# Altium footprint library CD214BFS2K.PcbLib: 1 footprints
Each footprint in its own frame and in the unit in brackets; x right, y up, seen from the top. Pads: shape width x height; smd on the part's side, far side on the other; paste and mask are expansions set on the pad; w line width, h text height; cw(c..) or ccw(c..) is an arc to the next point about the centre after c.
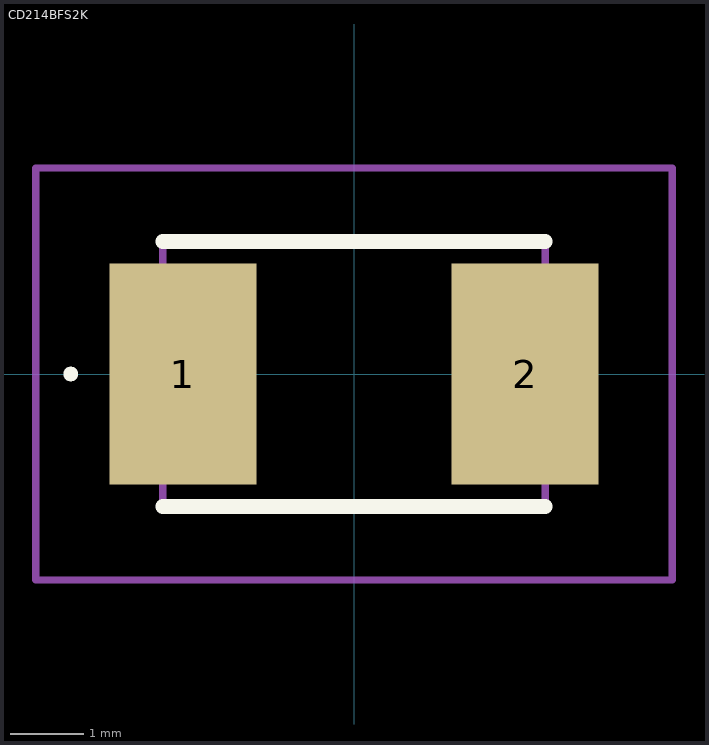
[diagram p0: the footprint, top view; thin cyan lines are the x and y axes]

## CD214BFS2K [mm]
pads (2):
  rect 2x3 smd: 1(-2.325,0) 2(2.325,0)
Top Overlay:
  lines w0.1: -3.9,0 cw(c-3.85,0) -3.8,0 ; -3.9,0 -3.9,0 ; -3.9,0 ccw(c-3.85,0) -3.8,0 ; -3.8,0 -3.8,0
  lines w0.2: -2.6,-1.8 2.6,-1.8 ; -2.6,1.8 2.6,1.8
Mechanical 15:
  lines w0.1: -2.6,-1.8 2.6,-1.8 2.6,1.8 -2.6,1.8 -2.6,-1.8
Mechanical 20:
  lines w0.1: -4.325,-2.8 4.325,-2.8 4.325,2.8 -4.325,2.8 -4.325,-2.8
3D body "CD214B-FS2K.stp": height 5.8, standoff -4.65, extent -10,-3.376 10,3.376